# Altium footprint library samtec-fts.PcbLib: 6 footprints
Each footprint in its own frame and in the unit in brackets; x right, y up, seen from the top. Pads: shape width x height; smd on the part's side, far side on the other; paste and mask are expansions set on the pad; w line width, h text height; cw(c..) or ccw(c..) is an arc to the next point about the centre after c.
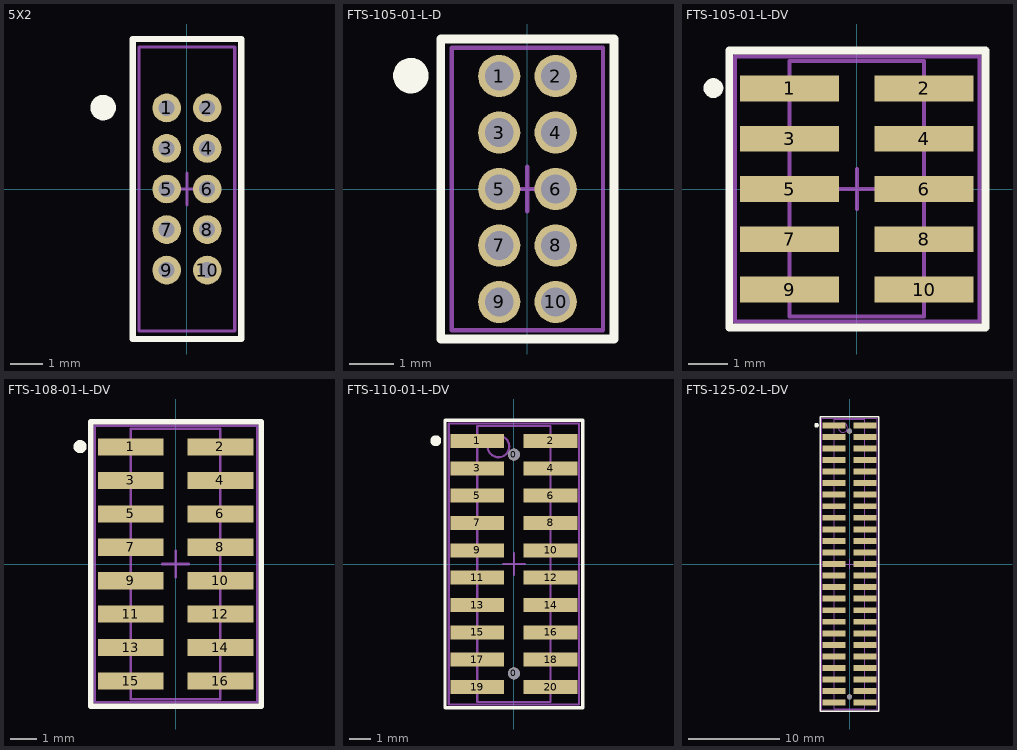
[diagram p0: the footprints below, top view; thin cyan lines are the x and y axes]

## 5X2 [mm] "HEADER PTH 1.27mm 2x5"
height 4.32
pads (10):
  round 0.9 hole 0.5: 1(-0.635,2.54) 2(0.635,2.54) 3(-0.635,1.27) 4(0.635,1.27) 5(-0.635,0) 6(0.635,0) 7(-0.635,-1.27) 8(0.635,-1.27) 9(-0.635,-2.54) 10(0.635,-2.54)
Top Overlay:
  circle w0.4: c-2.625,2.55 r0.2
  lines w0.2: -1.7,-4.699 -1.7,4.699 1.7,4.699 1.7,-4.699 -1.7,-4.699
Mechanical 13:
  lines w0.1: -0.5,0 0.5,0 ; 0,-0.5 0,0.5 ; -1.5,-4.445 -1.5,4.445 1.5,4.445 1.5,-4.445 -1.5,-4.445
Mechanical 15:
  lines w0.1: -1.5,-4.445 -1.5,4.445 1.5,4.445 1.5,-4.445 -1.5,-4.445
  text ".Designator" at 0.225,-2.55 h0.5

## FTS-105-01-L-D [mm] "HEADER PTH 1.27mm 2x5"
height 4.32
pads (10):
  round 0.95 hole 0.65: 1(-0.635,2.54) 2(0.635,2.54) 3(-0.635,1.27) 4(0.635,1.27) 5(-0.635,0) 6(0.635,0) 7(-0.635,-1.27) 8(0.635,-1.27) 9(-0.635,-2.54) 10(0.635,-2.54)
Top Overlay:
  circle w0.4: c-2.625,2.55 r0.2
  lines w0.2: -1.95,-3.375 1.95,-3.375 1.95,3.375 -1.95,3.375 -1.95,-3.375
Mechanical 13:
  lines w0.1: -0.5,0 0.5,0 ; 0,-0.5 0,0.5 ; -1.7,-3.175 1.7,-3.175 1.7,3.175 -1.7,3.175 -1.7,-3.175
Mechanical 15:
  lines w0.1: -1.7,-3.175 1.7,-3.175 1.7,3.175 -1.7,3.175 -1.7,-3.175
  text ".Designator" at 0.225,-2.55 h0.5
3D body: height 3.93, standoff -2.27, extent -1.714,-3.175 1.715,3.175

## FTS-105-01-L-DV [mm] "HEADER SMD 1.27mm 2x5"
height 4.32
pads (10):
  rect 2.5x0.65 smd: 1(-1.7,2.54) 2(1.7,2.54) 3(-1.7,1.27) 4(1.7,1.27) 5(-1.7,0) 6(1.7,0) 7(-1.7,-1.27) 8(1.7,-1.27) 9(-1.7,-2.54) 10(1.7,-2.54)
Top Overlay:
  circle w0.25: c-3.625,2.55 r0.125
  lines w0.2: -3.225,-3.495 -3.225,3.5 3.25,3.5 3.25,-3.495 -3.225,-3.495
Mechanical 13:
  lines w0.1: -0.5,0 0.5,0 ; 0,-0.5 0,0.5 ; -1.7,-3.225 -1.7,3.23 1.7,3.23 1.7,-3.225 -1.7,-3.225
Mechanical 15:
  lines w0.1: -3.075,-3.345 -3.075,3.35 3.1,3.35 3.1,-3.345 -3.075,-3.345
  text ".Designator" at 0.225,-2.55 h0.5
3D body: height 4.31, standoff -0.01, extent -2.921,-3.175 2.921,3.175

## FTS-108-01-L-DV [mm] "HEADER SMD 1.27mm 2x8"
height 4.32
pads (16):
  rect 2.5x0.65 smd: 1(-1.7,4.445) 2(1.7,4.445) 3(-1.7,3.175) 4(1.7,3.175) 5(-1.7,1.905) 6(1.7,1.905) 7(-1.7,0.635) 8(1.7,0.635) 9(-1.7,-0.635) 10(1.7,-0.635) 11(-1.7,-1.905) 12(1.7,-1.905) 13(-1.7,-3.175) 14(1.7,-3.175) 15(-1.7,-4.445) 16(1.7,-4.445)
Top Overlay:
  circle w0.25: c-3.625,4.455 r0.125
  lines w0.2: -3.225,-5.4 -3.225,5.405 3.25,5.405 3.25,-5.4 -3.225,-5.4
Mechanical 13:
  lines w0.1: -0.5,0 0.5,0 ; 0,-0.5 0,0.5 ; -1.7,-5.13 -1.7,5.135 1.7,5.135 1.7,-5.13 -1.7,-5.13
Mechanical 15:
  lines w0.1: -3.075,-5.25 -3.075,5.255 3.1,5.255 3.1,-5.25 -3.075,-5.25
  text ".Designator" at 0.2,-2.4 h0.5
3D body: height 4.33, standoff 0.01, extent -2.921,-5.08 2.921,5.08

## FTS-110-01-L-DV [mm] "SAMTEC HEADER SMD 1.27mm 2x10"
height 3.2
pads (22):
  round 0.55 hole 0.55 unplated: 0(0,-5.08) 0(0,5.08)
  rect 2.5x0.65 smd: 1(-1.7,5.715) 2(1.7,5.715) 3(-1.7,4.445) 4(1.7,4.445) 5(-1.7,3.175) 6(1.7,3.175) 7(-1.7,1.905) 8(1.7,1.905) 9(-1.7,0.635) 10(1.7,0.635) 11(-1.7,-0.635) 12(1.7,-0.635) 13(-1.7,-1.905) 14(1.7,-1.905) 15(-1.7,-3.175) 16(1.7,-3.175) 17(-1.7,-4.445) 18(1.7,-4.445) 19(-1.7,-5.715) 20(1.7,-5.715)
Top Overlay:
  circle w0.25: c-3.625,5.725 r0.125
  lines w0.16: -3.2,-6.67 -3.2,6.675 3.2,6.675 3.2,-6.67 -3.2,-6.67
Mechanical 13:
  circle w0.1: c-0.715,5.455 r0.5
  lines w0.1: -1.7,-6.4 -1.7,6.405 1.7,6.405 1.7,-6.4 -1.7,-6.4
  text ".Designator" at 0.15,-1.65 h0.5
Mechanical 15:
  lines w0.1: -0.5,0 0.5,0 ; 0,-0.5 0,0.5 ; 3.025,6.525 3.025,-6.52 -3.025,-6.52 -3.025,6.525 3.025,6.525 ; 3.025,6.525 3.025,6.525
3D body: height 4.31, standoff -0.01, extent -2.921,-6.35 2.921,6.35

## FTS-125-02-L-DV [mm] "SAMTEC HEADER SMD 1.27mm 2x25"
height 3.2
pads (52):
  round 0.55 hole 0.55 unplated: 0(0,-14.605) 0(0,14.605)
  rect 2.5x0.65 smd: 1(-1.7,15.24) 2(1.7,15.24) 3(-1.7,13.97) 4(1.7,13.97) 5(-1.7,12.7) 6(1.7,12.7) 7(-1.7,11.43) 8(1.7,11.43) 9(-1.7,10.16) 10(1.7,10.16) 11(-1.7,8.89) 12(1.7,8.89) 13(-1.7,7.62) 14(1.7,7.62) 15(-1.7,6.35) 16(1.7,6.35) 17(-1.7,5.08) 18(1.7,5.08) 19(-1.7,3.81) 20(1.7,3.81) 21(-1.7,2.54) 22(1.7,2.54) 23(-1.7,1.27) 24(1.7,1.27) 25(-1.7,0) 26(1.7,0) 27(-1.7,-1.27) 28(1.7,-1.27) 29(-1.7,-2.54) 30(1.7,-2.54) 31(-1.7,-3.81) 32(1.7,-3.81) 33(-1.7,-5.08) 34(1.7,-5.08) 35(-1.7,-6.35) 36(1.7,-6.35) 37(-1.7,-7.62) 38(1.7,-7.62) 39(-1.7,-8.89) 40(1.7,-8.89) 41(-1.7,-10.16) 42(1.7,-10.16) 43(-1.7,-11.43) 44(1.7,-11.43) 45(-1.7,-12.7) 46(1.7,-12.7) 47(-1.7,-13.97) 48(1.7,-13.97) 49(-1.7,-15.24) 50(1.7,-15.24)
Top Overlay:
  circle w0.25: c-3.625,15.25 r0.125
  lines w0.16: -3.2,-16.2 -3.2,16.2 3.2,16.2 3.2,-16.2 -3.2,-16.2
Mechanical 13:
  circle w0.1: c-0.715,14.98 r0.5
  lines w0.1: -0.5,0 0.5,0 ; 0,-0.5 0,0.5 ; -1.665,-15.93 -1.665,15.93 1.665,15.93 1.665,-15.93 -1.665,-15.93
Mechanical 15:
  lines w0.1: 3.025,16.05 3.025,-16.05 -3.025,-16.05 -3.025,16.05 3.025,16.05 ; 3.025,16.05 3.025,16.05
  text ".Designator" at 0.15,-2.15 h0.5